# Altium schematic symbol library SCH-MCU-WCH-CH573X-QFN32-4X4.SchLib: 1 symbol
Pins are listed as number, name and electrical type; pins without a type are passive.

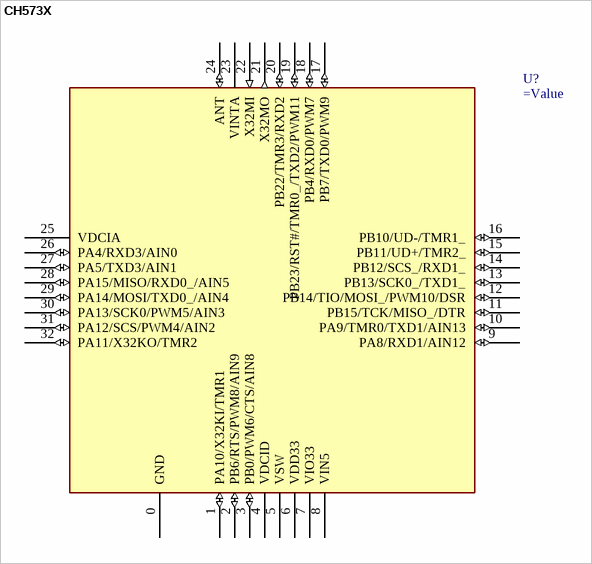
[diagram p0: symbol CH573X]

## CH573X
designator U?
pins: 0 GND (power), 1 PA10/X32KI/TMR1 (io), 2 PB6/RTS/PWM8/AIN9 (io), 3 PB0/PWM6/CTS/AIN8 (io), 4 VDCID (power), 5 VSW (power), 6 VDD33 (power), 7 VIO33 (power), 8 VIN5 (power), 9 PA8/RXD1/AIN12 (io), 10 PA9/TMR0/TXD1/AIN13 (io), 11 PB15/TCK/MISO_/DTR (io), 12 PB14/TIO/MOSI_/PWM10/DSR (io), 13 PB13/SCK0_/TXD1_ (io), 14 PB12/SCS_/RXD1_ (io), 15 PB11/UD+/TMR2_ (io), 16 PB10/UD-/TMR1_ (io), 17 PB7/TXD0/PWM9 (io), 18 PB4/RXD0/PWM7 (io), 19 PB23/RST#/TMR0_/TXD2/PWM11 (io), 20 PB22/TMR3/RXD2 (io), 21 X32MO (out), 22 X32MI (in), 23 VINTA (power), 24 ANT (io), 25 VDCIA (power), 26 PA4/RXD3/AIN0 (io), 27 PA5/TXD3/AIN1 (io), 28 PA15/MISO/RXD0_/AIN5 (io), 29 PA14/MOSI/TXD0_/AIN4 (io), 30 PA13/SCK0/PWM5/AIN3 (io), 31 PA12/SCS/PWM4/AIN2 (io), 32 PA11/X32KO/TMR2 (io)
2 alternate drawings of the same symbol